# EAGLE library part FMTEA5767 (library library)
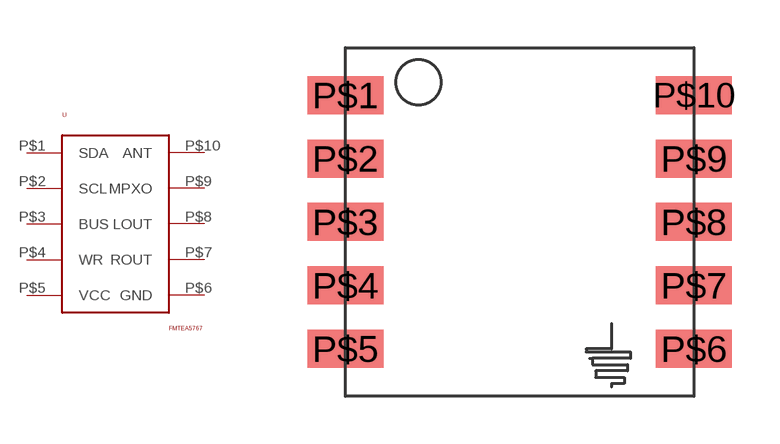
[diagram p2: symbol with the pads of FMTEA5767; footprint FMTEA5767]

Designator prefix -

## FMTEA5767  [FMTEA5767]
P$1  SDA
P$2  SCL
P$3  BUS
P$4  WR
P$5  VCC
P$6  GND
P$7  ROUT
P$8  LOUT
P$9  MPXO
P$10  ANT

## Footprint FMTEA5767 (pad centres in mm)
Radio FM TEA5767
smd 2.4 x 1.2: P$1 0,-1.5; P$2 0,-3.5; P$3 0,-5.5; P$4 0,-7.5; P$5 0,-9.5; P$6 11,-9.5; P$7 11,-7.5; P$8 11,-5.5; P$9 11,-3.5; P$10 11,-1.5